# Altium schematic symbol library AA_SymbolTemplate.SchLib: 1 symbol
Pins are listed as number, name and electrical type; pins without a type are passive.

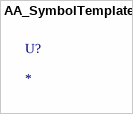
[diagram p0: symbol AA_SymbolTemplate]

## AA_SymbolTemplate
designator U?
Value: *